# EAGLE library part AS4C64M16D2 (library AllianceMemory)
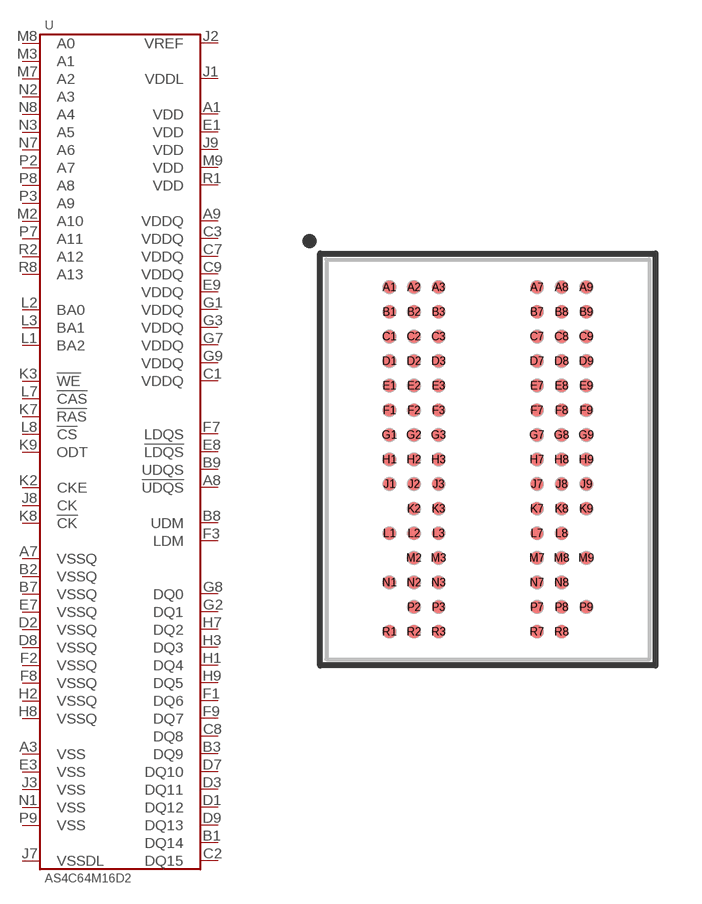
[diagram p2: symbol with the pads of TFBGA-84; footprint TFBGA-84]

Designator prefix -

## AS4C64M16D2-25BCN  [TFBGA-84]
A1  VDD
A3  VSS
A7  VSSQ
A8  !UDQS
A9  VDDQ
B1  DQ14
B2  VSSQ
B3  DQ9
B7  VSSQ
B8  UDM
B9  UDQS
C1  VDDQ
C2  DQ15
C3  VDDQ
C7  VDDQ
C8  DQ8
C9  VDDQ
D1  DQ12
D2  VSSQ
D3  DQ11
D7  DQ10
D8  VSSQ
D9  DQ13
E1  VDD
E3  VSS
E7  VSSQ
E8  !LDQS
E9  VDDQ
F1  DQ6
F2  VSSQ
F3  LDM
F7  LDQS
F8  VSSQ
F9  DQ7
G1  VDDQ
G2  DQ1
G3  VDDQ
G7  VDDQ
G8  DQ0
G9  VDDQ
H1  DQ4
H2  VSSQ
H3  DQ3
H7  DQ2
H8  VSSQ
H9  DQ5
J1  VDDL
J2  VREF
J3  VSS
J7  VSSDL
J8  CK
J9  VDD
K2  CKE
K3  !WE
K7  !RAS
K8  !CK
K9  ODT
L1  BA2
L2  BA0
L3  BA1
L7  !CAS
L8  !CS
M2  A10
M3  A1
M7  A2
M8  A0
M9  VDD
N1  VSS
N2  A3
N3  A5
N7  A6
N8  A4
P2  A7
P3  A9
P7  A11
P8  A8
P9  VSS
R1  VDD
R2  A12
R8  A13

## Footprint TFBGA-84 (pad centres in mm)
smd 0.4 x 0.4: A1 -3.2,5.6; A2 -2.4,5.6; A3 -1.6,5.6; A7 1.6,5.6; A8 2.4,5.6; A9 3.2,5.6; B1 -3.2,4.8; B2 -2.4,4.8; B3 -1.6,4.8; B7 1.6,4.8; B8 2.4,4.8; B9 3.2,4.8; C1 -3.2,4; C2 -2.4,4; C3 -1.6,4; C7 1.6,4; C8 2.4,4; C9 3.2,4; D1 -3.2,3.2; D2 -2.4,3.2; D3 -1.6,3.2; D7 1.6,3.2; D8 2.4,3.2; D9 3.2,3.2; E1 -3.2,2.4; E2 -2.4,2.4; E3 -1.6,2.4; E7 1.6,2.4; E8 2.4,2.4; E9 3.2,2.4; F1 -3.2,1.6; F2 -2.4,1.6; F3 -1.6,1.6; F7 1.6,1.6; F8 2.4,1.6; F9 3.2,1.6; G1 -3.2,0.8; G2 -2.4,0.8; G3 -1.6,0.8; G7 1.6,0.8; G8 2.4,0.8; G9 3.2,0.8; H1 -3.2,0; H2 -2.4,0; H3 -1.6,0; H7 1.6,0; H8 2.4,0; H9 3.2,0; J1 -3.2,-0.8; J2 -2.4,-0.8; J3 -1.6,-0.8; J7 1.6,-0.8; J8 2.4,-0.8; J9 3.2,-0.8; K2 -2.4,-1.6; K3 -1.6,-1.6; K7 1.6,-1.6; K8 2.4,-1.6; K9 3.2,-1.6; L1 -3.2,-2.4; L2 -2.4,-2.4; L3 -1.6,-2.4; L7 1.6,-2.4; L8 2.4,-2.4; M2 -2.4,-3.2; M3 -1.6,-3.2; M7 1.6,-3.2; M8 2.4,-3.2; M9 3.2,-3.2; N1 -3.2,-4; N2 -2.4,-4; N3 -1.6,-4; N7 1.6,-4; N8 2.4,-4; P2 -2.4,-4.8; P3 -1.6,-4.8; P7 1.6,-4.8; P8 2.4,-4.8; P9 3.2,-4.8; R1 -3.2,-5.6; R2 -2.4,-5.6; R3 -1.6,-5.6; R7 1.6,-5.6; R8 2.4,-5.6